# Altium footprint library KeyBoard.PcbLib: 9 footprints
Each footprint in its own frame and in the unit in brackets; x right, y up, seen from the top. Pads: shape width x height; smd on the part's side, far side on the other; paste and mask are expansions set on the pad; w line width, h text height; cw(c..) or ccw(c..) is an arc to the next point about the centre after c.
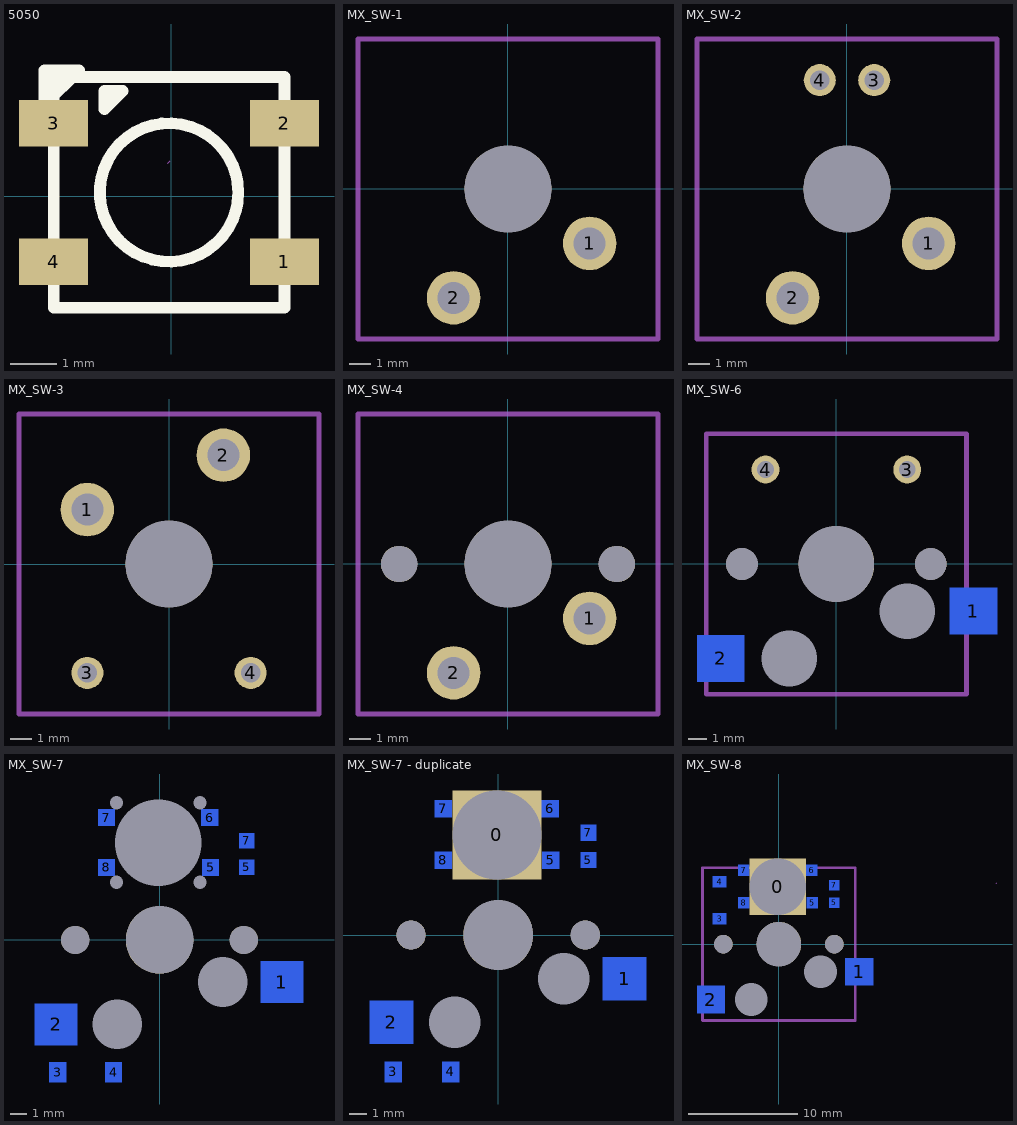
[diagram p0: the footprints below, top view; thin cyan lines are the x and y axes]

## 5050 [mm]
pads (4):
  rect 1.5x1 smd: 1(2.448,-1.413) 2(2.448,1.587) 3(-2.552,1.587) 4(-2.552,-1.413)
Top Overlay:
  circle w0.254: c-0.051,0.087 r1.5
  lines w0.254: -2.751,1.987 -2.751,2.737 -2.001,2.737 -2.751,1.987 ; -2.551,-2.413 2.448,-2.413 2.448,2.587 -2.551,2.587 -2.551,-2.413 ; -1.451,1.887 -1.451,2.287 -1.051,2.287 -1.451,1.887
Mechanical 15:
  lines w0.003: -0.077,0.72 -0.027,0.77

## MX_SW-1 [mm] "without Fixation pins  1-Pole"
pads (3):
  round 2.5 hole 1.5: 1(3.81,-2.54) 2(-2.54,-5.08)
  round 4.064 hole 4.064: ""(0,0)
Mechanical 1:
  lines w0.254: -7,-7 -7,7 7,7 7,-7 -7,-7

## MX_SW-2 [mm] "without Fixation pins  1-Pole w/LED"
pads (5):
  round 2.5 hole 1.5: 1(3.81,-2.54) 2(-2.54,-5.08)
  round 1.5 hole 0.9: 3(1.27,5.08) 4(-1.27,5.08)
  round 4.064 hole 4.064: ""(0,0)
Mechanical 1:
  lines w0.254: -7,-7 7,-7 7,7 -7,7 -7,-7

## MX_SW-3 [mm] "without Fixation pins  1-Pole w/Diode"
pads (5):
  round 2.5 hole 1.5: 1(-3.81,2.54) 2(2.54,5.08)
  round 1.5 hole 0.9: 3(-3.81,-5.08) 4(3.81,-5.08)
  round 4.064 hole 4.064: ""(0,0)
Mechanical 1:
  lines w0.254: -7,-7 7,-7 7,7 -7,7 -7,-7

## MX_SW-4 [mil] "with Fixation pins  1-Pole"
pads (5):
  round 98.43 hole 59.06: 1(150,-100) 2(-100,-200)
  round 67 hole 67: ""(-200,0) ""(200,0)
  round 160 hole 160: ""(0,0)
Mechanical 1:
  lines w10: -275.59,-275.59 275.59,-275.59 275.59,275.59 -275.59,275.59 -275.59,-275.59

## MX_SW-6 [mm] "with Fixation pins  1-Pole w/Diode"
pads (9):
  round 0 hole 3 unplated: 0(-2.54,-5.08) 0(3.81,-2.54)
  rect 2.55x2.5 smd far side: 1(7.366,-2.54) 2(-6.223,-5.08)
  round 1.5 hole 0.9: 3(3.81,5.08) 4(-3.81,5.08)
  round 1.702 hole 1.702: ""(-5.08,0) ""(5.08,0)
  round 4.064 hole 4.064: ""(0,0)
Bottom Overlay:
  lines w0.203: -4.826,-6.477 -4.826,-6.858 3.683,-6.858 ccw(c3.556,-4.318) 6.099,-4.318 ; -4.826,-3.81 -4.826,-3.556 cw(c-4.127,-3.493) -4.064,-2.794 0.381,-2.794 ccw(c0.381,-0.889) 2.286,-0.889 6.096,-0.889 6.096,-1.143 ; 6.096,-4.445 6.096,-3.937
Mechanical 1:
  lines w0.254: -7,-7 7,-7 ; -7,-7 7,-7 ; -7,-7 -7,7 7,7 7,-7

## MX_SW-7 [mil] "with Fixation pins  1-Pole w/LED"
pads (20):
  round 0 hole 31.5 unplated: 0(-102,137) 0(-102,325) 0(96,137) 0(96,325)
  round 0 hole 118.11 unplated: 0(-100,-200) 0(150,-100)
  rect 0x0 hole 204.72 square unplated: 0(-3,230)
  rect 100.39x98.43 smd far side: 1(290,-100) 2(-245,-200)
  rect 39.37x47.24 smd far side: 3(-241.14,-314) 4(-108.86,-314)
  rect 39.37x39.37 smd far side: 5(121,172) 6(119,290) 7(-126,290) 8(-126,172)
  rect 35.43x35.83 smd far side: 5(207,172) 7(207,234.99)
  round 67 hole 67: ""(-200,0) ""(200,0)
  round 160 hole 160: ""(0,0)
Bottom Overlay:
  circle w10: c-3.45,231.05 r59.06
  lines w8: -190,-255 -190,-270 145,-270 ccw(c140,-170) 240.12,-170 ; -190,-150 -190,-140 cw(c-162.5,-137.5) -160,-110 15,-110 ccw(c15,-35) 90,-35 240,-35 240,-45 ; 240,-175 240,-155
  lines w10: -194.69,-353.37 -275,-353.37 -275,-274.63 -194.69,-274.63 ; -167.13,-337.62 -167.13,-290.38 ; -155,-353.37 -85.75,-353.37 -70,-337.62 -70,-290.38 -85.75,-274.63 -155,-274.63 ; -77.87,-345.5 -77.87,-282.5 ; 177.47,189.72 177.47,154.28 ccw(c207,183.61) 236.53,154.28 236.53,189.72 ; 177.47,217.28 177.47,252.71 cw(c207,223.69) 236.53,252.71 236.53,217.28 ; -275.59,-275.59 -275.59,275.59 275.59,275.59 275.59,-275.59 -275.59,-275.59 ; -186.81,-333.68 -167.13,-314 -186.81,-294.31 -186.81,-333.68 ; -128.76,328.24 -99.24,357.76 -128.76,357.76 -128.76,328.24 ; -101.87,132.63 94.98,132.63 94.98,329.48 -101.87,329.48 -101.87,132.63
3D body "SOD-123.STEP": height 47.24, standoff 0, extent -248.84,-345.5 -103.17,-282.51
3D body "User Library-0603 SMD Capacitor.STEP": height 11.89, standoff 0, extent 191.25,172 222.75,234.99

## MX_SW-7 - duplicate [mm] "with Fixation pins  1-Pole w/LED"
pads (16):
  round 0 hole 3 unplated: 0(-2.54,-5.08) 0(3.81,-2.54)
  rect 5.2x5.2 hole 5.2 square unplated: 0(-0.076,5.842)
  rect 2.55x2.5 smd far side: 1(7.366,-2.54) 2(-6.223,-5.08)
  rect 1x1.2 smd far side: 3(-6.125,-7.976) 4(-2.765,-7.976)
  rect 1x1 smd far side: 5(3.073,4.369) 6(3.023,7.366) 7(-3.2,7.366) 8(-3.2,4.369)
  rect 0.9x0.91 smd far side: 5(5.258,4.369) 7(5.258,5.969)
  round 1.702 hole 1.702: ""(-5.08,0) ""(5.08,0)
  round 4.064 hole 4.064: ""(0,0)
Bottom Overlay:
  circle w0.254: c-0.088,5.869 r1.5
  lines w0.203: -4.826,-6.477 -4.826,-6.858 3.683,-6.858 ccw(c3.556,-4.318) 6.099,-4.318 ; -4.826,-3.81 -4.826,-3.556 cw(c-4.127,-3.493) -4.064,-2.794 0.381,-2.794 ccw(c0.381,-0.889) 2.286,-0.889 6.096,-0.889 6.096,-1.143 ; 6.096,-4.445 6.096,-3.937
  lines w0.254: -4.945,-8.976 -6.985,-8.976 -6.985,-6.976 -4.945,-6.976 ; -4.245,-8.576 -4.245,-7.376 ; -3.937,-8.976 -2.178,-8.976 -1.778,-8.576 -1.778,-7.376 -2.178,-6.976 -3.937,-6.976 ; -1.978,-8.776 -1.978,-7.176 ; 4.508,4.819 4.508,3.919 ccw(c5.258,4.664) 6.008,3.919 6.008,4.819 ; 4.508,5.519 4.508,6.419 cw(c5.258,5.682) 6.008,6.419 6.008,5.519 ; -7,-7 7,-7 7,7 -7,7 -7,-7 ; -4.745,-8.476 -4.745,-7.476 -4.245,-7.976 -4.745,-8.476 ; -2.587,3.369 -2.587,8.369 2.412,8.369 2.412,3.369 -2.587,3.369 ; 0.912,8.069 1.312,8.069 1.312,7.669 0.912,8.069 ; 1.862,8.519 2.612,8.519 2.612,7.769 1.862,8.519
3D body "User Library-0603 SMD Capacitor.STEP": height 0.3, standoff 0, extent 4.858,4.369 5.658,5.969
3D body "SOD-123.STEP": height 1.2, standoff 0, extent -6.321,-8.776 -2.621,-7.176

## MX_SW-8 [mm] "with Fixation pins  1-Pole w/Diode"
pads (16):
  round 0 hole 3 unplated: 0(-2.54,-5.08) 0(3.81,-2.54)
  rect 5.2x5.2 hole 5.2 square unplated: 0(-0.102,5.258)
  rect 2.55x2.5 smd far side: 1(7.366,-2.54) 2(-6.223,-5.08)
  rect 1.2x1 smd far side: 3(-5.436,2.333) 4(-5.436,5.693)
  rect 1x1 smd far side: 5(3.048,3.785) 6(2.997,6.782) 7(-3.226,6.782) 8(-3.226,3.785)
  rect 0.9x0.91 smd far side: 5(5.08,3.785) 7(5.08,5.385)
  round 1.702 hole 1.702: ""(-5.08,0) ""(5.08,0)
  round 4.064 hole 4.064: ""(0,0)
Bottom Overlay:
  circle w0.254: c-0.113,5.284 r1.5
  lines w0.203: -4.826,-6.477 -4.826,-6.858 3.683,-6.858 ccw(c3.556,-4.318) 6.099,-4.318 ; -4.826,-3.81 -4.826,-3.556 cw(c-4.127,-3.492) -4.064,-2.794 0.381,-2.794 ccw(c0.381,-0.889) 2.286,-0.889 6.096,-0.889 6.096,-1.143 ; 6.096,-4.445 6.096,-3.937
  lines w0.254: -6.436,3.513 -6.436,1.473 -4.436,1.473 -4.436,3.513 ; -6.436,4.521 -6.436,6.28 -6.036,6.68 -4.836,6.68 -4.436,6.28 -4.436,4.521 ; -6.236,6.48 -4.636,6.48 ; -6.036,4.213 -4.836,4.213 ; 4.33,4.235 4.33,3.335 ccw(c5.08,4.079) 5.83,3.335 5.83,4.235 ; 4.33,4.935 4.33,5.835 cw(c5.08,5.098) 5.83,5.835 5.83,4.935 ; -5.936,3.713 -5.436,4.213 -4.936,3.713 -5.936,3.713 ; -2.613,2.785 2.387,2.785 2.387,7.785 -2.613,7.785 -2.613,2.785 ; 0.887,7.484 1.287,7.085 1.287,7.485 0.887,7.484 ; 1.837,7.935 2.587,7.185 2.587,7.935 1.837,7.935
Mechanical 1:
  lines w0.254: -7,-7 -7,7 7,7 7,-7 -7,-7
Mechanical 15:
  lines w0.003: 19.924,5.587 19.975,5.638
3D body "SOD-123.STEP": height 1.2, standoff 0, extent -6.235,2.138 -4.635,5.838
3D body "User Library-0603 SMD Capacitor.STEP": height 0.3, standoff 0, extent 4.68,3.785 5.48,5.385